# Altium footprint library PCB - CONNECTOR - AMPHENOL RJHSE3M80.PcbLib: 1 footprints
Each footprint in its own frame and in the unit in brackets; x right, y up, seen from the top. Pads: shape width x height; smd on the part's side, far side on the other; paste and mask are expansions set on the pad; w line width, h text height; cw(c..) or ccw(c..) is an arc to the next point about the centre after c.
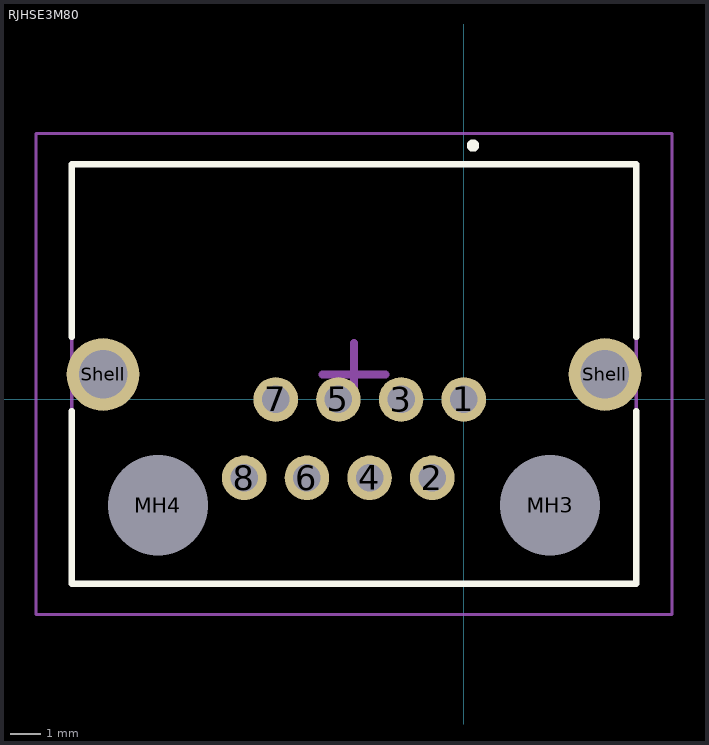
[diagram p0: the footprint, top view; thin cyan lines are the x and y axes]

## RJHSE3M80 [mm]
pads (12):
  round 1.446 hole 0.89: 1(0,0) 2(-1.02,-2.54) 3(-2.03,0) 4(-3.05,-2.54) 5(-4.06,0) 6(-5.08,-2.54) 7(-6.09,0) 8(-7.11,-2.54)
  round 1.625 hole 3.25 unplated: MH3(2.795,-3.43) MH4(-9.905,-3.43)
  round 2.355 hole 1.57: Shell(-11.685,0.81) Shell(4.575,0.81)
Top Overlay:
  lines w0.2: -12.7,-0.375 -12.7,-5.97 5.59,-5.97 5.59,-0.375 ; -12.7,2.025 -12.7,7.62 5.59,7.62 5.59,2.025 ; 0.2,8.225 ccw(c0.3,8.225) 0.4,8.225 ccw(c0.3,8.225) 0.2,8.225
Top Assembly:
  lines w0.1: -12.7,-5.97 -12.7,7.62 5.59,7.62 5.59,-5.97 -12.7,-5.97
Top Courtyard:
  lines w0.1: -13.863,-6.97 6.753,-6.97 6.753,8.62 -13.863,8.62 -13.863,-6.97
Top Designator:
  text ".Designator" at -8.133,9.192 h2.03
Top Component Center:
  lines w0.254: -4.572,0.81 -3.556,0.81 ; -3.556,-0.254 -3.556,0.762 ; -3.556,1.826 -3.556,0.81 ; -2.54,0.81 -3.556,0.81
3D body "RJHSE3M80.stp": height 15.89, standoff -3.54, extent -12.694,-5.958 5.594,7.606